# Altium schematic symbol library ADN8834.SchLib: 2 symbols
Pins are listed as number, name and electrical type; pins without a type are passive.

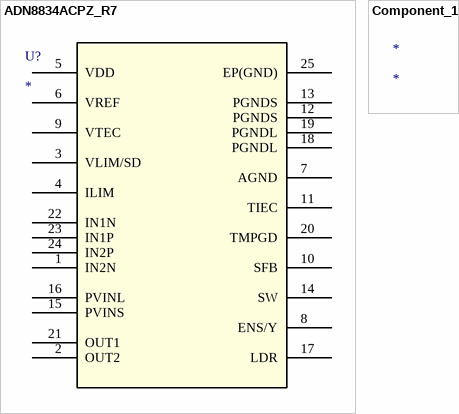
[diagram p0: symbols ADN8834ACPZ_R7 to Component_1]

## ADN8834ACPZ_R7
designator U?
Imported; Value: Value; Type: Type; RefDes: RefDes
footprint CP_24_7
pins: 1 IN2N, 2 OUT2, 3 VLIM/SD, 4 ILIM, 5 VDD, 6 VREF, 7 AGND, 8 ENS/Y, 9 VTEC, 10 SFB, 11 TIEC, 12 PGNDS, 13 PGNDS, 14 SW, 15 PVINS, 16 PVINL, 17 LDR, 18 PGNDL, 19 PGNDL, 20 TMPGD, 21 OUT1, 22 IN1N, 23 IN1P, 24 IN2P, 25 EP(GND)

## Component_1
designator *